# Altium footprint library 0603D_green.PcbLib: 1 footprints
Each footprint in its own frame and in the unit in brackets; x right, y up, seen from the top. Pads: shape width x height; smd on the part's side, far side on the other; paste and mask are expansions set on the pad; w line width, h text height; cw(c..) or ccw(c..) is an arc to the next point about the centre after c.
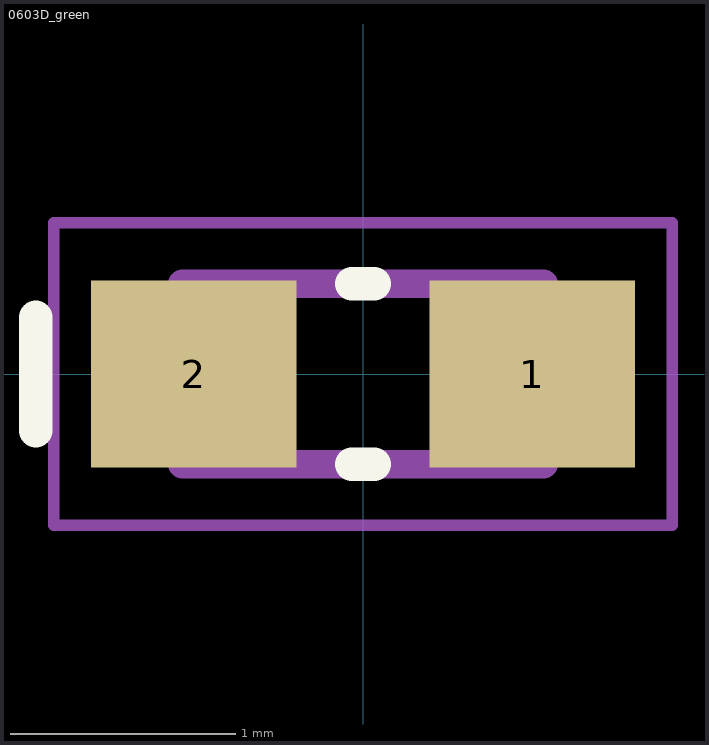
[diagram p0: the footprint, top view; thin cyan lines are the x and y axes]

## 0603D_green [mm]
pads (2):
  rect 0.91x0.83 smd: 1(0.75,0) 2(-0.75,0)
Top Overlay:
  lines w0.15: -1.45,-0.25 -1.45,0.25 ; -0.05,-0.4 0.05,-0.4 ; -0.05,0.4 0.05,0.4
Mechanical 13:
  lines w0.127: -0.8,-0.4 -0.8,0.4 0.8,0.4 0.8,-0.4 -0.8,-0.4
Mechanical 15:
  lines w0.05: -1.37,-0.67 -1.37,0.67 1.37,0.67 1.37,-0.67 -1.37,-0.67
3D body "step_temp.STEP": height 0.7, standoff 0, extent -0.8,-0.4 0.8,0.4
3D body: height 0.71, standoff 0.3, extent -0.559,-0.406 0.559,0.406